# EAGLE library part IV-6 (library Clock components)
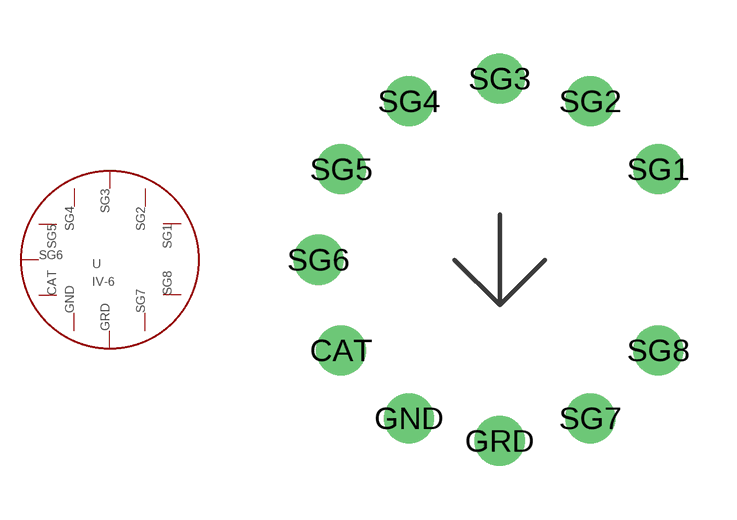
[diagram p2: symbol with the pads of IV-6; footprint IV-6]

Designator prefix -

## IV-6  [IV-6]
CAT  CAT
GND  GND
GRD  GRD
SG1  SG1
SG2  SG2
SG3  SG3
SG4  SG4
SG5  SG5
SG6  SG6
SG7  SG7
SG8  SG8

## Footprint IV-6 (pad centres in mm)
drill 0.9: CAT -4.445,-2.54; GND -2.54,-4.445; GRD 0,-5.08; SG1 4.445,2.54; SG2 2.54,4.445; SG3 0,5.08; SG4 -2.54,4.445; SG5 -4.445,2.54; SG6 -5.08,0; SG7 2.54,-4.445; SG8 4.445,-2.54